# Altium footprint library CN_DB9_FEM_RA.PcbLib: 1 footprints
Each footprint in its own frame and in the unit in brackets; x right, y up, seen from the top. Pads: shape width x height; smd on the part's side, far side on the other; paste and mask are expansions set on the pad; w line width, h text height; cw(c..) or ccw(c..) is an arc to the next point about the centre after c.
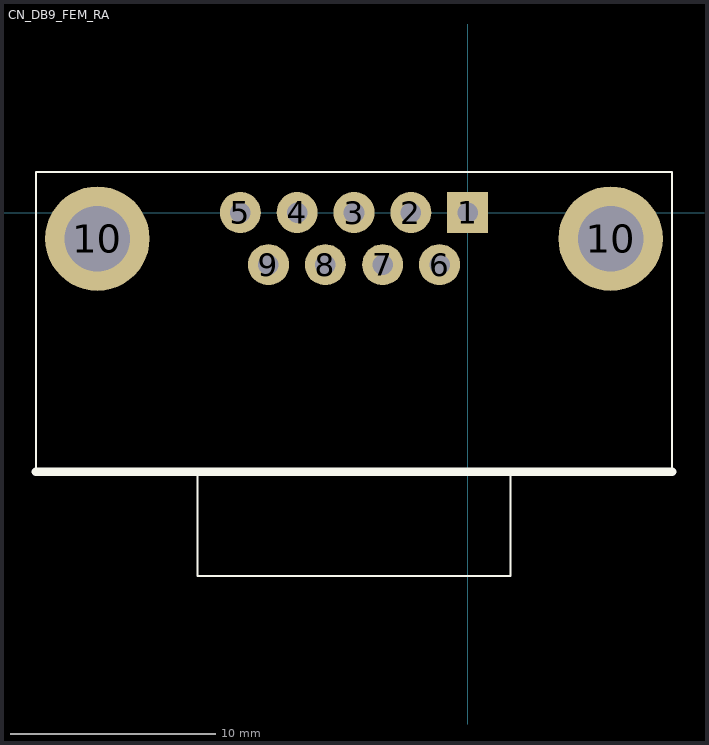
[diagram p0: the footprint, top view; thin cyan lines are the x and y axes]

## CN_DB9_FEM_RA [mm] "CN_DB9_FEM_RA"
pads (11):
  rect 2x2 hole 1: 1(0,0)
  round 2 hole 1: 2(-2.769,0) 3(-5.537,0) 4(-8.306,0) 5(-11.074,0) 6(-1.372,-2.54) 7(-4.14,-2.54) 8(-6.934,-2.54) 9(-9.703,-2.54)
  round 5.08 hole 3.2: 10(-18.034,-1.27) 10(6.96,-1.27)
Top Overlay:
  lines w0.102: -21.031,-12.625 -21.031,1.98 9.957,1.98 9.957,-12.625 ; -13.157,-12.625 -13.157,-17.705 2.083,-17.705 2.083,-12.625
  lines w0.4: -21.031,-12.625 9.957,-12.625
3D body: height 12.52, standoff -3.98, extent -20.937,-16.797 9.863,1.703